# EAGLE library part RCMODELPART10A (library futaba)
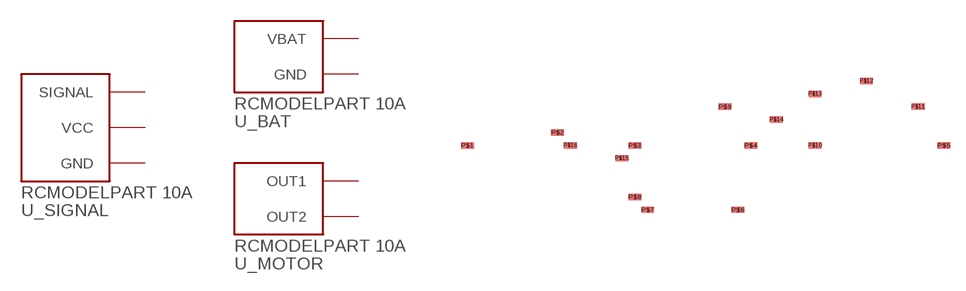
[diagram p1: symbol with the pads of R2004GF; footprint R2004GF]

Designator prefix -; gates _SIGNAL=RCMODELPART10A_SIGNAL _BAT=RCMODELPART10A_PWR _MOTOR=RCMODELPART10A_MOT

## RCMODELPART10A  [R2004GF]
P$1  _SIGNAL:GND  pwr
P$2  _SIGNAL:SIGNAL
P$3  _SIGNAL:VCC  pwr
P$4  _BAT:GND
P$5  _BAT:VBAT
P$6  _MOTOR:OUT1
P$7  _MOTOR:OUT2

## Footprint R2004GF (pad centres in mm)
smd 1.27 x 0.635: P$1 -26.67,1.27; P$2 -17.78,2.54; P$3 -10.16,1.27; P$4 1.27,1.27; P$5 20.32,1.27; P$6 0,-5.08; P$7 -8.89,-5.08; P$8 -10.16,-3.81; P$9 -1.27,5.08; P$10 7.62,1.27; P$11 17.78,5.08; P$12 12.7,7.62; P$13 7.62,6.35; P$14 3.81,3.81; P$15 -11.43,0; P$16 -16.51,1.27